# EAGLE library part SF-MICROSD (library openplayer)
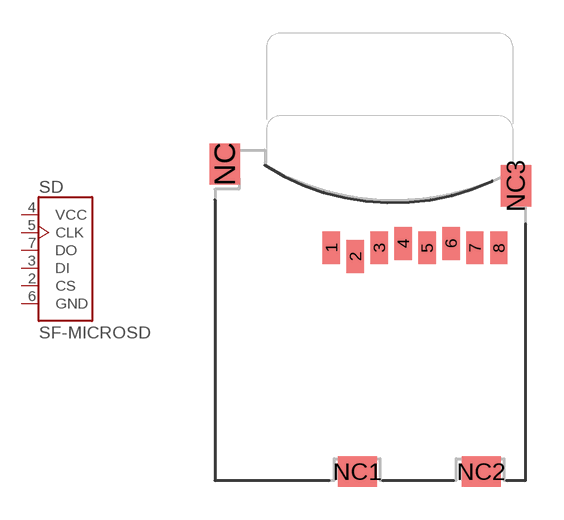
[diagram p4: symbol with the pads of MICROSD; footprint MICROSD]

Designator prefix SD

## SF-MICROSD  [MICROSD]
2  CS
3  DI
4  VCC  pas
5  CLK
6  GND  sup
7  DO

## Footprint MICROSD (pad centres in mm)
smd 0.8 x 1.5: 1 -1.94,2.7; 2 -0.84,2.3; 3 0.26,2.7; 4 1.36,2.9; 5 2.46,2.7; 6 3.56,2.9; 7 4.66,2.7; 8 5.76,2.7
smd 1.4 x 1.9: NC -6.85,6.55; NC3 6.55,5.55
smd 1.8 x 1.4: NC1 -0.75,-7.6; NC2 4.95,-7.6